# Altium footprint library Connector_PinHeader_1.27mm.PcbLib: 278 footprints (part 4 of 18)
Each footprint in its own frame and in the unit in brackets; x right, y up, seen from the top. Pads: shape width x height; smd on the part's side, far side on the other; paste and mask are expansions set on the pad; w line width, h text height; cw(c..) or ccw(c..) is an arc to the next point about the centre after c.
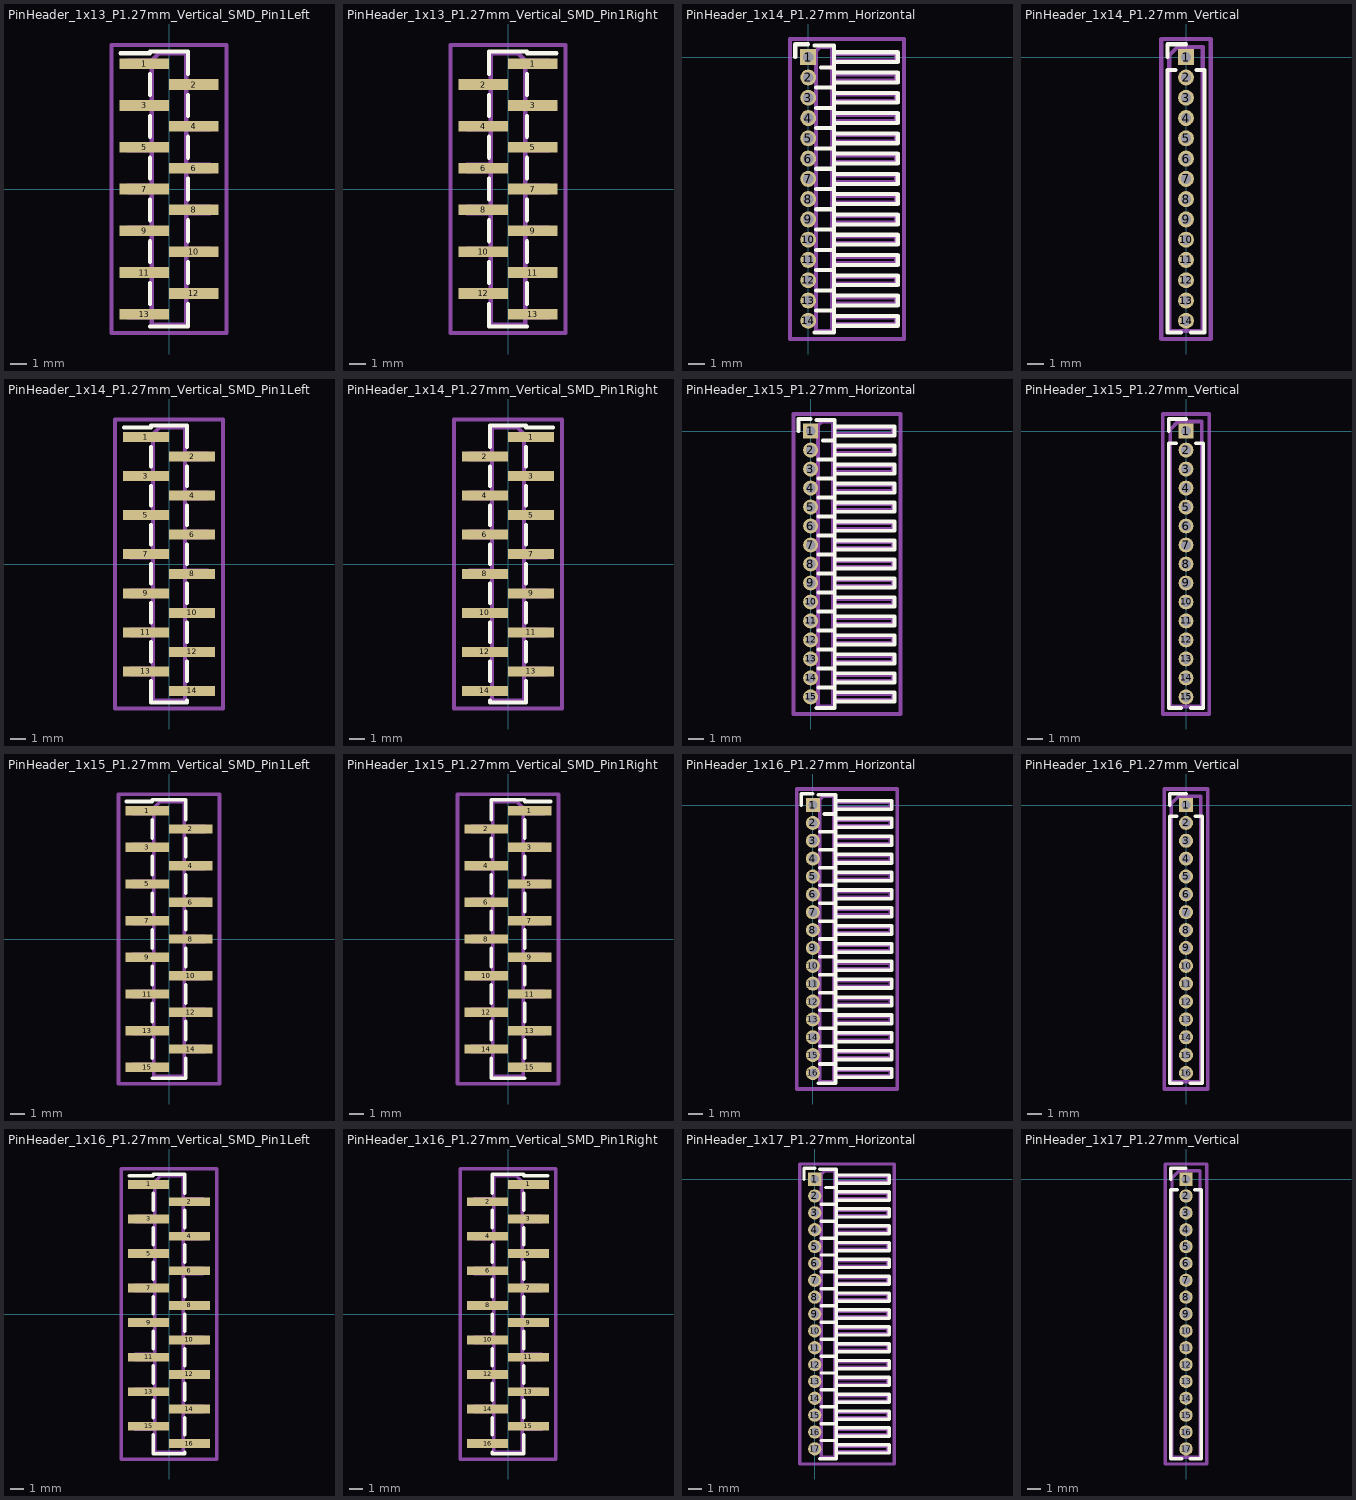
[diagram p3: the footprints below, top view; thin cyan lines are the x and y axes]

## PinHeader_1x13_P1.27mm_Vertical_SMD_Pin1Left [mm]
pads (13):
  rect 3x0.65 smd: 1(-1.5,7.62) 2(1.5,6.35) 3(-1.5,5.08) 4(1.5,3.81) 5(-1.5,2.54) 6(1.5,1.27) 7(-1.5,0) 8(1.5,-1.27) 9(-1.5,-2.54) 10(1.5,-3.81) 11(-1.5,-5.08) 12(1.5,-6.35) 13(-1.5,-7.62)
F.SilkS:
  lines w0.254: -2.94,8.255 -1.16,8.255 -1.16,8.365 1.16,8.365 ; -1.16,-8.365 1.16,-8.365 ; -1.16,-6.985 -1.16,-5.715 ; -1.16,-4.445 -1.16,-3.175 ; -1.16,-1.905 -1.16,-0.635 ; -1.16,0.635 -1.16,1.905 ; -1.16,3.175 -1.16,4.445 ; -1.16,5.715 -1.16,6.985 ; 1.16,-8.255 1.16,-8.365 ; 1.16,-6.985 1.16,-8.365 ; 1.16,-5.715 1.16,-4.445 ; 1.16,-3.175 1.16,-1.905 ; 1.16,-0.635 1.16,0.635 ; 1.16,1.905 1.16,3.175 ; 1.16,4.445 1.16,5.715 ; 1.16,6.985 1.16,8.255
Top Assembly:
  lines w0.254: -1.05,-7.82 -2.5,-7.82 -2.5,-7.42 -1.05,-7.42 ; -1.05,-5.28 -2.5,-5.28 -2.5,-4.88 -1.05,-4.88 ; -1.05,-2.74 -2.5,-2.74 -2.5,-2.34 -1.05,-2.34 ; -1.05,-0.2 -2.5,-0.2 -2.5,0.2 -1.05,0.2 ; -1.05,2.34 -2.5,2.34 -2.5,2.74 -1.05,2.74 ; -1.05,4.88 -2.5,4.88 -2.5,5.28 -1.05,5.28 ; -1.05,7.42 -2.5,7.42 -2.5,7.82 -1.05,7.82 ; 1.05,-6.55 2.5,-6.55 2.5,-6.15 1.05,-6.15 ; 1.05,-4.01 2.5,-4.01 2.5,-3.61 1.05,-3.61 ; 1.05,-1.47 2.5,-1.47 2.5,-1.07 1.05,-1.07 ; 1.05,1.07 2.5,1.07 2.5,1.47 1.05,1.47 ; 1.05,3.61 2.5,3.61 2.5,4.01 1.05,4.01 ; 1.05,6.15 2.5,6.15 2.5,6.55 1.05,6.55 ; -1.05,7.82 -1.05,-8.255 1.05,-8.255 1.05,8.255 -0.615,8.255 -1.05,7.82
  text "'.Designator'" at 0.84,-4.047 h1
Top Courtyard:
  lines w0.254: -3.5,-8.76 3.5,-8.76 3.5,8.76 -3.5,8.76 -3.5,-8.76
Top Designator:
  text ".Designator" at -7.618,-0.508 h1.52

## PinHeader_1x13_P1.27mm_Vertical_SMD_Pin1Right [mm]
pads (13):
  rect 3x0.65 smd: 1(1.5,7.62) 2(-1.5,6.35) 3(1.5,5.08) 4(-1.5,3.81) 5(1.5,2.54) 6(-1.5,1.27) 7(1.5,0) 8(-1.5,-1.27) 9(1.5,-2.54) 10(-1.5,-3.81) 11(1.5,-5.08) 12(-1.5,-6.35) 13(1.5,-7.62)
F.SilkS:
  lines w0.254: -1.16,-8.255 -1.16,-8.365 ; -1.16,-6.985 -1.16,-8.365 ; -1.16,-5.715 -1.16,-4.445 ; -1.16,-3.175 -1.16,-1.905 ; -1.16,-0.635 -1.16,0.635 ; -1.16,1.905 -1.16,3.175 ; -1.16,4.445 -1.16,5.715 ; -1.16,8.365 1.16,8.365 1.16,8.255 2.94,8.255 ; 1.16,-8.365 -1.16,-8.365 ; 1.16,-6.985 1.16,-5.715 ; 1.16,-4.445 1.16,-3.175 ; 1.16,-1.905 1.16,-0.635 ; 1.16,0.635 1.16,1.905 ; 1.16,3.175 1.16,4.445 ; 1.16,5.715 1.16,6.985 ; -1.16,6.985 -1.16,8.255 -1.16,6.985
Top Assembly:
  lines w0.254: -1.05,-6.55 -2.5,-6.55 -2.5,-6.15 -1.05,-6.15 ; -1.05,-4.01 -2.5,-4.01 -2.5,-3.61 -1.05,-3.61 ; -1.05,-1.47 -2.5,-1.47 -2.5,-1.07 -1.05,-1.07 ; -1.05,1.07 -2.5,1.07 -2.5,1.47 -1.05,1.47 ; -1.05,3.61 -2.5,3.61 -2.5,4.01 -1.05,4.01 ; -1.05,6.15 -2.5,6.15 -2.5,6.55 -1.05,6.55 ; 1.05,-7.82 2.5,-7.82 2.5,-7.42 1.05,-7.42 ; 1.05,-5.28 2.5,-5.28 2.5,-4.88 1.05,-4.88 ; 1.05,-2.74 2.5,-2.74 2.5,-2.34 1.05,-2.34 ; 1.05,-0.2 2.5,-0.2 2.5,0.2 1.05,0.2 ; 1.05,2.34 2.5,2.34 2.5,2.74 1.05,2.74 ; 1.05,4.88 2.5,4.88 2.5,5.28 1.05,5.28 ; 1.05,7.42 2.5,7.42 2.5,7.82 1.05,7.82 ; 1.05,7.82 1.05,-8.255 -1.05,-8.255 -1.05,8.255 0.615,8.255 1.05,7.82
  text "'.Designator'" at 0.84,-4.047 h1
Top Courtyard:
  lines w0.254: -3.5,-8.76 3.5,-8.76 3.5,8.76 -3.5,8.76 -3.5,-8.76
Top Designator:
  text ".Designator" at -7.618,-0.508 h1.52

## PinHeader_1x14_P1.27mm_Horizontal [mm]
pads (14):
  rect 1x1 hole 0.65: 1(0,0)
  round 1 hole 0.65: 2(0,-1.27) 3(0,-2.54) 4(0,-3.81) 5(0,-5.08) 6(0,-6.35) 7(0,-7.62) 8(0,-8.89) 9(0,-10.16) 10(0,-11.43) 11(0,-12.7) 12(0,-13.97) 13(0,-15.24) 14(0,-16.51)
F.SilkS:
  lines w0.254: -0.81,0 -0.81,0.81 0,0.81 ; 0.39,-17.255 1.61,-17.255 1.61,0.745 0.39,0.745 ; 0.503,-15.875 1.61,-15.875 ; 0.503,-14.605 1.61,-14.605 ; 0.503,-13.335 1.61,-13.335 ; 0.503,-12.065 1.61,-12.065 ; 0.503,-10.795 1.61,-10.795 ; 0.503,-9.525 1.61,-9.525 ; 0.503,-8.255 1.61,-8.255 ; 0.503,-6.985 1.61,-6.985 ; 0.503,-5.715 1.61,-5.715 ; 0.503,-4.445 1.61,-4.445 ; 0.503,-3.175 1.61,-3.175 ; 0.503,-1.905 1.61,-1.905 ; 0.81,-0.635 1.61,-0.635 ; 1.61,-16.82 5.61,-16.82 5.61,-16.2 1.61,-16.2 ; 1.61,-15.55 5.61,-15.55 5.61,-14.93 1.61,-14.93 ; 1.61,-14.28 5.61,-14.28 5.61,-13.66 1.61,-13.66 ; 1.61,-13.01 5.61,-13.01 5.61,-12.39 1.61,-12.39 ; 1.61,-11.74 5.61,-11.74 5.61,-11.12 1.61,-11.12 ; 1.61,-10.47 5.61,-10.47 5.61,-9.85 1.61,-9.85 ; 1.61,-9.2 5.61,-9.2 5.61,-8.58 1.61,-8.58 ; 1.61,-7.93 5.61,-7.93 5.61,-7.31 1.61,-7.31 ; 1.61,-6.66 5.61,-6.66 5.61,-6.04 1.61,-6.04 ; 1.61,-5.39 5.61,-5.39 5.61,-4.77 1.61,-4.77 ; 1.61,-4.12 5.61,-4.12 5.61,-3.5 1.61,-3.5 ; 1.61,-2.85 5.61,-2.85 5.61,-2.23 1.61,-2.23 ; 1.61,-1.58 5.61,-1.58 5.61,-0.96 1.61,-0.96 ; 1.61,-0.31 5.61,-0.31 5.61,0.31 1.61,0.31 1.61,-0.31
Top Assembly:
  lines w0.254: 0.5,-16.71 -0.2,-16.71 -0.2,-16.31 0.5,-16.31 ; 0.5,-15.44 -0.2,-15.44 -0.2,-15.04 0.5,-15.04 ; 0.5,-14.17 -0.2,-14.17 -0.2,-13.77 0.5,-13.77 ; 0.5,-12.9 -0.2,-12.9 -0.2,-12.5 0.5,-12.5 ; 0.5,-11.63 -0.2,-11.63 -0.2,-11.23 0.5,-11.23 ; 0.5,-10.36 -0.2,-10.36 -0.2,-9.96 0.5,-9.96 ; 0.5,-9.09 -0.2,-9.09 -0.2,-8.69 0.5,-8.69 ; 0.5,-7.82 -0.2,-7.82 -0.2,-7.42 0.5,-7.42 ; 0.5,-6.55 -0.2,-6.55 -0.2,-6.15 0.5,-6.15 ; 0.5,-5.28 -0.2,-5.28 -0.2,-4.88 0.5,-4.88 ; 0.5,-4.01 -0.2,-4.01 -0.2,-3.61 0.5,-3.61 ; 0.5,-2.74 -0.2,-2.74 -0.2,-2.34 0.5,-2.34 ; 0.5,-1.47 -0.2,-1.47 -0.2,-1.07 0.5,-1.07 ; 0.5,-0.2 -0.2,-0.2 -0.2,0.2 0.5,0.2 ; 1.5,-16.71 5.5,-16.71 5.5,-16.31 1.5,-16.31 ; 1.5,-15.44 5.5,-15.44 5.5,-15.04 1.5,-15.04 ; 1.5,-14.17 5.5,-14.17 5.5,-13.77 1.5,-13.77 ; 1.5,-12.9 5.5,-12.9 5.5,-12.5 1.5,-12.5 ; 1.5,-11.63 5.5,-11.63 5.5,-11.23 1.5,-11.23 ; 1.5,-10.36 5.5,-10.36 5.5,-9.96 1.5,-9.96 ; 1.5,-9.09 5.5,-9.09 5.5,-8.69 1.5,-8.69 ; 1.5,-7.82 5.5,-7.82 5.5,-7.42 1.5,-7.42 ; 1.5,-6.55 5.5,-6.55 5.5,-6.15 1.5,-6.15 ; 1.5,-5.28 5.5,-5.28 5.5,-4.88 1.5,-4.88 ; 1.5,-4.01 5.5,-4.01 5.5,-3.61 1.5,-3.61 ; 1.5,-2.74 5.5,-2.74 5.5,-2.34 1.5,-2.34 ; 1.5,-1.47 5.5,-1.47 5.5,-1.07 1.5,-1.07 ; 1.5,-0.2 5.5,-0.2 5.5,0.2 1.5,0.2 ; 0.5,-17.145 1.5,-17.145 1.5,0.635 0.75,0.635 0.5,0.385 0.5,-17.145
  text "'.Designator'" at 1.504,-10.683 h0.6
Top Courtyard:
  lines w0.254: -1.14,-17.65 6,-17.65 6,1.14 -1.14,1.14 -1.14,-17.65
Top Designator:
  text ".Designator" at -5.188,-8.763 h1.52

## PinHeader_1x14_P1.27mm_Vertical [mm]
pads (14):
  rect 1x1 hole 0.65: 1(0,0)
  round 1 hole 0.65: 2(0,-1.27) 3(0,-2.54) 4(0,-3.81) 5(0,-5.08) 6(0,-6.35) 7(0,-7.62) 8(0,-8.89) 9(0,-10.16) 10(0,-11.43) 11(0,-12.7) 12(0,-13.97) 13(0,-15.24) 14(0,-16.51)
F.SilkS:
  lines w0.254: -1.16,0 -1.16,0.81 0,0.81 ; -0.667,-0.81 -1.16,-0.81 -1.16,-17.255 -0.318,-17.255 ; 0.318,-17.255 1.16,-17.255 1.16,-0.81 0.667,-0.81
Top Assembly:
  lines w0.254: -1.05,-17.145 1.05,-17.145 1.05,0.635 -0.525,0.635 -1.05,0.11 -1.05,-17.145
  text "'.Designator'" at 0.84,-12.302 h1
Top Courtyard:
  lines w0.254: -1.55,-17.65 1.55,-17.65 1.55,1.14 -1.55,1.14 -1.55,-17.65
Top Designator:
  text ".Designator" at -7.618,-8.763 h1.52

## PinHeader_1x14_P1.27mm_Vertical_SMD_Pin1Left [mm]
pads (14):
  rect 3x0.65 smd: 1(-1.5,8.255) 2(1.5,6.985) 3(-1.5,5.715) 4(1.5,4.445) 5(-1.5,3.175) 6(1.5,1.905) 7(-1.5,0.635) 8(1.5,-0.635) 9(-1.5,-1.905) 10(1.5,-3.175) 11(-1.5,-4.445) 12(1.5,-5.715) 13(-1.5,-6.985) 14(1.5,-8.255)
F.SilkS:
  lines w0.254: -2.94,8.89 -1.16,8.89 -1.16,9 1.16,9 ; -1.16,-7.62 -1.16,-9 1.16,-9 1.16,-8.89 ; -1.16,-6.35 -1.16,-5.08 ; -1.16,-3.81 -1.16,-2.54 ; -1.16,-1.27 -1.16,0 ; -1.16,1.27 -1.16,2.54 ; -1.16,3.81 -1.16,5.08 ; -1.16,6.35 -1.16,7.62 ; 1.16,-7.62 1.16,-6.35 ; 1.16,-5.08 1.16,-3.81 ; 1.16,-2.54 1.16,-1.27 ; 1.16,0 1.16,1.27 ; 1.16,2.54 1.16,3.81 ; 1.16,5.08 1.16,6.35 ; 1.16,7.62 1.16,8.89
Top Assembly:
  lines w0.254: -1.05,-7.185 -2.5,-7.185 -2.5,-6.785 -1.05,-6.785 ; -1.05,-4.645 -2.5,-4.645 -2.5,-4.245 -1.05,-4.245 ; -1.05,-2.105 -2.5,-2.105 -2.5,-1.705 -1.05,-1.705 ; -1.05,0.435 -2.5,0.435 -2.5,0.835 -1.05,0.835 ; -1.05,2.975 -2.5,2.975 -2.5,3.375 -1.05,3.375 ; -1.05,5.515 -2.5,5.515 -2.5,5.915 -1.05,5.915 ; -1.05,8.055 -2.5,8.055 -2.5,8.455 -1.05,8.455 ; 1.05,-8.455 2.5,-8.455 2.5,-8.055 1.05,-8.055 ; 1.05,-5.915 2.5,-5.915 2.5,-5.515 1.05,-5.515 ; 1.05,-3.375 2.5,-3.375 2.5,-2.975 1.05,-2.975 ; 1.05,-0.835 2.5,-0.835 2.5,-0.435 1.05,-0.435 ; 1.05,1.705 2.5,1.705 2.5,2.105 1.05,2.105 ; 1.05,4.245 2.5,4.245 2.5,4.645 1.05,4.645 ; 1.05,6.785 2.5,6.785 2.5,7.185 1.05,7.185 ; -1.05,8.455 -1.05,-8.89 1.05,-8.89 1.05,8.89 -0.615,8.89 -1.05,8.455
  text "'.Designator'" at 0.84,-4.047 h1
Top Courtyard:
  lines w0.254: -3.5,-9.4 3.5,-9.4 3.5,9.4 -3.5,9.4 -3.5,-9.4
Top Designator:
  text ".Designator" at -7.618,-0.508 h1.52

## PinHeader_1x14_P1.27mm_Vertical_SMD_Pin1Right [mm]
pads (14):
  rect 3x0.65 smd: 1(1.5,8.255) 2(-1.5,6.985) 3(1.5,5.715) 4(-1.5,4.445) 5(1.5,3.175) 6(-1.5,1.905) 7(1.5,0.635) 8(-1.5,-0.635) 9(1.5,-1.905) 10(-1.5,-3.175) 11(1.5,-4.445) 12(-1.5,-5.715) 13(1.5,-6.985) 14(-1.5,-8.255)
F.SilkS:
  lines w0.254: -1.16,-8.89 -1.16,-9 1.16,-9 1.16,-7.62 ; -1.16,-7.62 -1.16,-6.35 ; -1.16,-5.08 -1.16,-3.81 ; -1.16,-2.54 -1.16,-1.27 ; -1.16,0 -1.16,1.27 ; -1.16,2.54 -1.16,3.81 ; -1.16,5.08 -1.16,6.35 ; -1.16,9 1.16,9 1.16,8.89 2.94,8.89 ; 1.16,-6.35 1.16,-5.08 ; 1.16,-3.81 1.16,-2.54 ; 1.16,-1.27 1.16,0 ; 1.16,1.27 1.16,2.54 ; 1.16,3.81 1.16,5.08 ; 1.16,6.35 1.16,7.62 ; -1.16,7.62 -1.16,8.89 -1.16,7.62
Top Assembly:
  lines w0.254: -1.05,-8.455 -2.5,-8.455 -2.5,-8.055 -1.05,-8.055 ; -1.05,-5.915 -2.5,-5.915 -2.5,-5.515 -1.05,-5.515 ; -1.05,-3.375 -2.5,-3.375 -2.5,-2.975 -1.05,-2.975 ; -1.05,-0.835 -2.5,-0.835 -2.5,-0.435 -1.05,-0.435 ; -1.05,1.705 -2.5,1.705 -2.5,2.105 -1.05,2.105 ; -1.05,4.245 -2.5,4.245 -2.5,4.645 -1.05,4.645 ; -1.05,6.785 -2.5,6.785 -2.5,7.185 -1.05,7.185 ; 1.05,-7.185 2.5,-7.185 2.5,-6.785 1.05,-6.785 ; 1.05,-4.645 2.5,-4.645 2.5,-4.245 1.05,-4.245 ; 1.05,-2.105 2.5,-2.105 2.5,-1.705 1.05,-1.705 ; 1.05,0.435 2.5,0.435 2.5,0.835 1.05,0.835 ; 1.05,2.975 2.5,2.975 2.5,3.375 1.05,3.375 ; 1.05,5.515 2.5,5.515 2.5,5.915 1.05,5.915 ; 1.05,8.055 2.5,8.055 2.5,8.455 1.05,8.455 ; 1.05,8.455 1.05,-8.89 -1.05,-8.89 -1.05,8.89 0.615,8.89 1.05,8.455
  text "'.Designator'" at 0.84,-4.047 h1
Top Courtyard:
  lines w0.254: -3.5,-9.4 3.5,-9.4 3.5,9.4 -3.5,9.4 -3.5,-9.4
Top Designator:
  text ".Designator" at -7.618,-0.508 h1.52

## PinHeader_1x15_P1.27mm_Horizontal [mm]
pads (15):
  rect 1x1 hole 0.65: 1(0,0)
  round 1 hole 0.65: 2(0,-1.27) 3(0,-2.54) 4(0,-3.81) 5(0,-5.08) 6(0,-6.35) 7(0,-7.62) 8(0,-8.89) 9(0,-10.16) 10(0,-11.43) 11(0,-12.7) 12(0,-13.97) 13(0,-15.24) 14(0,-16.51) 15(0,-17.78)
F.SilkS:
  lines w0.254: -0.81,0 -0.81,0.81 0,0.81 ; 0.39,-18.525 1.61,-18.525 1.61,0.745 0.39,0.745 ; 0.503,-17.145 1.61,-17.145 ; 0.503,-15.875 1.61,-15.875 ; 0.503,-14.605 1.61,-14.605 ; 0.503,-13.335 1.61,-13.335 ; 0.503,-12.065 1.61,-12.065 ; 0.503,-10.795 1.61,-10.795 ; 0.503,-9.525 1.61,-9.525 ; 0.503,-8.255 1.61,-8.255 ; 0.503,-6.985 1.61,-6.985 ; 0.503,-5.715 1.61,-5.715 ; 0.503,-4.445 1.61,-4.445 ; 0.503,-3.175 1.61,-3.175 ; 0.503,-1.905 1.61,-1.905 ; 0.81,-0.635 1.61,-0.635 ; 1.61,-18.09 5.61,-18.09 5.61,-17.47 1.61,-17.47 ; 1.61,-16.82 5.61,-16.82 5.61,-16.2 1.61,-16.2 ; 1.61,-15.55 5.61,-15.55 5.61,-14.93 1.61,-14.93 ; 1.61,-14.28 5.61,-14.28 5.61,-13.66 1.61,-13.66 ; 1.61,-13.01 5.61,-13.01 5.61,-12.39 1.61,-12.39 ; 1.61,-11.74 5.61,-11.74 5.61,-11.12 1.61,-11.12 ; 1.61,-10.47 5.61,-10.47 5.61,-9.85 1.61,-9.85 ; 1.61,-9.2 5.61,-9.2 5.61,-8.58 1.61,-8.58 ; 1.61,-7.93 5.61,-7.93 5.61,-7.31 1.61,-7.31 ; 1.61,-6.66 5.61,-6.66 5.61,-6.04 1.61,-6.04 ; 1.61,-5.39 5.61,-5.39 5.61,-4.77 1.61,-4.77 ; 1.61,-4.12 5.61,-4.12 5.61,-3.5 1.61,-3.5 ; 1.61,-2.85 5.61,-2.85 5.61,-2.23 1.61,-2.23 ; 1.61,-1.58 5.61,-1.58 5.61,-0.96 1.61,-0.96 ; 1.61,-0.31 5.61,-0.31 5.61,0.31 1.61,0.31 1.61,-0.31
Top Assembly:
  lines w0.254: 0.5,-17.98 -0.2,-17.98 -0.2,-17.58 0.5,-17.58 ; 0.5,-16.71 -0.2,-16.71 -0.2,-16.31 0.5,-16.31 ; 0.5,-15.44 -0.2,-15.44 -0.2,-15.04 0.5,-15.04 ; 0.5,-14.17 -0.2,-14.17 -0.2,-13.77 0.5,-13.77 ; 0.5,-12.9 -0.2,-12.9 -0.2,-12.5 0.5,-12.5 ; 0.5,-11.63 -0.2,-11.63 -0.2,-11.23 0.5,-11.23 ; 0.5,-10.36 -0.2,-10.36 -0.2,-9.96 0.5,-9.96 ; 0.5,-9.09 -0.2,-9.09 -0.2,-8.69 0.5,-8.69 ; 0.5,-7.82 -0.2,-7.82 -0.2,-7.42 0.5,-7.42 ; 0.5,-6.55 -0.2,-6.55 -0.2,-6.15 0.5,-6.15 ; 0.5,-5.28 -0.2,-5.28 -0.2,-4.88 0.5,-4.88 ; 0.5,-4.01 -0.2,-4.01 -0.2,-3.61 0.5,-3.61 ; 0.5,-2.74 -0.2,-2.74 -0.2,-2.34 0.5,-2.34 ; 0.5,-1.47 -0.2,-1.47 -0.2,-1.07 0.5,-1.07 ; 0.5,-0.2 -0.2,-0.2 -0.2,0.2 0.5,0.2 ; 1.5,-17.98 5.5,-17.98 5.5,-17.58 1.5,-17.58 ; 1.5,-16.71 5.5,-16.71 5.5,-16.31 1.5,-16.31 ; 1.5,-15.44 5.5,-15.44 5.5,-15.04 1.5,-15.04 ; 1.5,-14.17 5.5,-14.17 5.5,-13.77 1.5,-13.77 ; 1.5,-12.9 5.5,-12.9 5.5,-12.5 1.5,-12.5 ; 1.5,-11.63 5.5,-11.63 5.5,-11.23 1.5,-11.23 ; 1.5,-10.36 5.5,-10.36 5.5,-9.96 1.5,-9.96 ; 1.5,-9.09 5.5,-9.09 5.5,-8.69 1.5,-8.69 ; 1.5,-7.82 5.5,-7.82 5.5,-7.42 1.5,-7.42 ; 1.5,-6.55 5.5,-6.55 5.5,-6.15 1.5,-6.15 ; 1.5,-5.28 5.5,-5.28 5.5,-4.88 1.5,-4.88 ; 1.5,-4.01 5.5,-4.01 5.5,-3.61 1.5,-3.61 ; 1.5,-2.74 5.5,-2.74 5.5,-2.34 1.5,-2.34 ; 1.5,-1.47 5.5,-1.47 5.5,-1.07 1.5,-1.07 ; 1.5,-0.2 5.5,-0.2 5.5,0.2 1.5,0.2 ; 0.5,-18.415 1.5,-18.415 1.5,0.635 0.75,0.635 0.5,0.385 0.5,-18.415
  text "'.Designator'" at 1.504,-11.318 h0.6
Top Courtyard:
  lines w0.254: -1.14,-18.92 6,-18.92 6,1.14 -1.14,1.14 -1.14,-18.92
Top Designator:
  text ".Designator" at -5.188,-9.398 h1.52

## PinHeader_1x15_P1.27mm_Vertical [mm]
pads (15):
  rect 1x1 hole 0.65: 1(0,0)
  round 1 hole 0.65: 2(0,-1.27) 3(0,-2.54) 4(0,-3.81) 5(0,-5.08) 6(0,-6.35) 7(0,-7.62) 8(0,-8.89) 9(0,-10.16) 10(0,-11.43) 11(0,-12.7) 12(0,-13.97) 13(0,-15.24) 14(0,-16.51) 15(0,-17.78)
F.SilkS:
  lines w0.254: -1.16,0 -1.16,0.81 0,0.81 ; -0.667,-0.81 -1.16,-0.81 -1.16,-18.525 -0.318,-18.525 ; 0.318,-18.525 1.16,-18.525 1.16,-0.81 0.667,-0.81
Top Assembly:
  lines w0.254: -1.05,-18.415 1.05,-18.415 1.05,0.635 -0.525,0.635 -1.05,0.11 -1.05,-18.415
  text "'.Designator'" at 0.84,-12.937 h1
Top Courtyard:
  lines w0.254: -1.55,-18.92 1.55,-18.92 1.55,1.14 -1.55,1.14 -1.55,-18.92
Top Designator:
  text ".Designator" at -7.618,-9.398 h1.52

## PinHeader_1x15_P1.27mm_Vertical_SMD_Pin1Left [mm]
pads (15):
  rect 3x0.65 smd: 1(-1.5,8.89) 2(1.5,7.62) 3(-1.5,6.35) 4(1.5,5.08) 5(-1.5,3.81) 6(1.5,2.54) 7(-1.5,1.27) 8(1.5,0) 9(-1.5,-1.27) 10(1.5,-2.54) 11(-1.5,-3.81) 12(1.5,-5.08) 13(-1.5,-6.35) 14(1.5,-7.62) 15(-1.5,-8.89)
F.SilkS:
  lines w0.254: -2.94,9.525 -1.16,9.525 -1.16,9.635 1.16,9.635 ; -1.16,-9.635 1.16,-9.635 ; -1.16,-8.255 -1.16,-6.985 ; -1.16,-5.715 -1.16,-4.445 ; -1.16,-3.175 -1.16,-1.905 ; -1.16,-0.635 -1.16,0.635 ; -1.16,1.905 -1.16,3.175 ; -1.16,4.445 -1.16,5.715 ; -1.16,6.985 -1.16,8.255 ; 1.16,-9.525 1.16,-9.635 ; 1.16,-8.255 1.16,-9.635 ; 1.16,-6.985 1.16,-5.715 ; 1.16,-4.445 1.16,-3.175 ; 1.16,-1.905 1.16,-0.635 ; 1.16,0.635 1.16,1.905 ; 1.16,3.175 1.16,4.445 ; 1.16,5.715 1.16,6.985 ; 1.16,8.255 1.16,9.525
Top Assembly:
  lines w0.254: -1.05,-9.09 -2.5,-9.09 -2.5,-8.69 -1.05,-8.69 ; -1.05,-6.55 -2.5,-6.55 -2.5,-6.15 -1.05,-6.15 ; -1.05,-4.01 -2.5,-4.01 -2.5,-3.61 -1.05,-3.61 ; -1.05,-1.47 -2.5,-1.47 -2.5,-1.07 -1.05,-1.07 ; -1.05,1.07 -2.5,1.07 -2.5,1.47 -1.05,1.47 ; -1.05,3.61 -2.5,3.61 -2.5,4.01 -1.05,4.01 ; -1.05,6.15 -2.5,6.15 -2.5,6.55 -1.05,6.55 ; -1.05,8.69 -2.5,8.69 -2.5,9.09 -1.05,9.09 ; 1.05,-7.82 2.5,-7.82 2.5,-7.42 1.05,-7.42 ; 1.05,-5.28 2.5,-5.28 2.5,-4.88 1.05,-4.88 ; 1.05,-2.74 2.5,-2.74 2.5,-2.34 1.05,-2.34 ; 1.05,-0.2 2.5,-0.2 2.5,0.2 1.05,0.2 ; 1.05,2.34 2.5,2.34 2.5,2.74 1.05,2.74 ; 1.05,4.88 2.5,4.88 2.5,5.28 1.05,5.28 ; 1.05,7.42 2.5,7.42 2.5,7.82 1.05,7.82 ; -1.05,9.09 -1.05,-9.525 1.05,-9.525 1.05,9.525 -0.615,9.525 -1.05,9.09
  text "'.Designator'" at 0.84,-4.047 h1
Top Courtyard:
  lines w0.254: -3.5,-10.03 3.5,-10.03 3.5,10.03 -3.5,10.03 -3.5,-10.03
Top Designator:
  text ".Designator" at -7.618,-0.508 h1.52

## PinHeader_1x15_P1.27mm_Vertical_SMD_Pin1Right [mm]
pads (15):
  rect 3x0.65 smd: 1(1.5,8.89) 2(-1.5,7.62) 3(1.5,6.35) 4(-1.5,5.08) 5(1.5,3.81) 6(-1.5,2.54) 7(1.5,1.27) 8(-1.5,0) 9(1.5,-1.27) 10(-1.5,-2.54) 11(1.5,-3.81) 12(-1.5,-5.08) 13(1.5,-6.35) 14(-1.5,-7.62) 15(1.5,-8.89)
F.SilkS:
  lines w0.254: -1.16,-9.525 -1.16,-9.635 ; -1.16,-8.255 -1.16,-9.635 ; -1.16,-6.985 -1.16,-5.715 ; -1.16,-4.445 -1.16,-3.175 ; -1.16,-1.905 -1.16,-0.635 ; -1.16,0.635 -1.16,1.905 ; -1.16,3.175 -1.16,4.445 ; -1.16,5.715 -1.16,6.985 ; -1.16,9.635 1.16,9.635 1.16,9.525 2.94,9.525 ; 1.16,-9.635 -1.16,-9.635 ; 1.16,-8.255 1.16,-6.985 ; 1.16,-5.715 1.16,-4.445 ; 1.16,-3.175 1.16,-1.905 ; 1.16,-0.635 1.16,0.635 ; 1.16,1.905 1.16,3.175 ; 1.16,4.445 1.16,5.715 ; 1.16,6.985 1.16,8.255 ; -1.16,8.255 -1.16,9.525 -1.16,8.255
Top Assembly:
  lines w0.254: -1.05,-7.82 -2.5,-7.82 -2.5,-7.42 -1.05,-7.42 ; -1.05,-5.28 -2.5,-5.28 -2.5,-4.88 -1.05,-4.88 ; -1.05,-2.74 -2.5,-2.74 -2.5,-2.34 -1.05,-2.34 ; -1.05,-0.2 -2.5,-0.2 -2.5,0.2 -1.05,0.2 ; -1.05,2.34 -2.5,2.34 -2.5,2.74 -1.05,2.74 ; -1.05,4.88 -2.5,4.88 -2.5,5.28 -1.05,5.28 ; -1.05,7.42 -2.5,7.42 -2.5,7.82 -1.05,7.82 ; 1.05,-9.09 2.5,-9.09 2.5,-8.69 1.05,-8.69 ; 1.05,-6.55 2.5,-6.55 2.5,-6.15 1.05,-6.15 ; 1.05,-4.01 2.5,-4.01 2.5,-3.61 1.05,-3.61 ; 1.05,-1.47 2.5,-1.47 2.5,-1.07 1.05,-1.07 ; 1.05,1.07 2.5,1.07 2.5,1.47 1.05,1.47 ; 1.05,3.61 2.5,3.61 2.5,4.01 1.05,4.01 ; 1.05,6.15 2.5,6.15 2.5,6.55 1.05,6.55 ; 1.05,8.69 2.5,8.69 2.5,9.09 1.05,9.09 ; 1.05,9.09 1.05,-9.525 -1.05,-9.525 -1.05,9.525 0.615,9.525 1.05,9.09
  text "'.Designator'" at 0.84,-4.047 h1
Top Courtyard:
  lines w0.254: -3.5,-10.03 3.5,-10.03 3.5,10.03 -3.5,10.03 -3.5,-10.03
Top Designator:
  text ".Designator" at -7.618,-0.508 h1.52

## PinHeader_1x16_P1.27mm_Horizontal [mm]
pads (16):
  rect 1x1 hole 0.65: 1(0,0)
  round 1 hole 0.65: 2(0,-1.27) 3(0,-2.54) 4(0,-3.81) 5(0,-5.08) 6(0,-6.35) 7(0,-7.62) 8(0,-8.89) 9(0,-10.16) 10(0,-11.43) 11(0,-12.7) 12(0,-13.97) 13(0,-15.24) 14(0,-16.51) 15(0,-17.78) 16(0,-19.05)
F.SilkS:
  lines w0.254: -0.81,0 -0.81,0.81 0,0.81 ; 0.39,-19.795 1.61,-19.795 1.61,0.745 0.39,0.745 ; 0.503,-18.415 1.61,-18.415 ; 0.503,-17.145 1.61,-17.145 ; 0.503,-15.875 1.61,-15.875 ; 0.503,-14.605 1.61,-14.605 ; 0.503,-13.335 1.61,-13.335 ; 0.503,-12.065 1.61,-12.065 ; 0.503,-10.795 1.61,-10.795 ; 0.503,-9.525 1.61,-9.525 ; 0.503,-8.255 1.61,-8.255 ; 0.503,-6.985 1.61,-6.985 ; 0.503,-5.715 1.61,-5.715 ; 0.503,-4.445 1.61,-4.445 ; 0.503,-3.175 1.61,-3.175 ; 0.503,-1.905 1.61,-1.905 ; 0.81,-0.635 1.61,-0.635 ; 1.61,-19.36 5.61,-19.36 5.61,-18.74 1.61,-18.74 ; 1.61,-18.09 5.61,-18.09 5.61,-17.47 1.61,-17.47 ; 1.61,-16.82 5.61,-16.82 5.61,-16.2 1.61,-16.2 ; 1.61,-15.55 5.61,-15.55 5.61,-14.93 1.61,-14.93 ; 1.61,-14.28 5.61,-14.28 5.61,-13.66 1.61,-13.66 ; 1.61,-13.01 5.61,-13.01 5.61,-12.39 1.61,-12.39 ; 1.61,-11.74 5.61,-11.74 5.61,-11.12 1.61,-11.12 ; 1.61,-10.47 5.61,-10.47 5.61,-9.85 1.61,-9.85 ; 1.61,-9.2 5.61,-9.2 5.61,-8.58 1.61,-8.58 ; 1.61,-7.93 5.61,-7.93 5.61,-7.31 1.61,-7.31 ; 1.61,-6.66 5.61,-6.66 5.61,-6.04 1.61,-6.04 ; 1.61,-5.39 5.61,-5.39 5.61,-4.77 1.61,-4.77 ; 1.61,-4.12 5.61,-4.12 5.61,-3.5 1.61,-3.5 ; 1.61,-2.85 5.61,-2.85 5.61,-2.23 1.61,-2.23 ; 1.61,-1.58 5.61,-1.58 5.61,-0.96 1.61,-0.96 ; 1.61,-0.31 5.61,-0.31 5.61,0.31 1.61,0.31 1.61,-0.31
Top Assembly:
  lines w0.254: 0.5,-19.25 -0.2,-19.25 -0.2,-18.85 0.5,-18.85 ; 0.5,-17.98 -0.2,-17.98 -0.2,-17.58 0.5,-17.58 ; 0.5,-16.71 -0.2,-16.71 -0.2,-16.31 0.5,-16.31 ; 0.5,-15.44 -0.2,-15.44 -0.2,-15.04 0.5,-15.04 ; 0.5,-14.17 -0.2,-14.17 -0.2,-13.77 0.5,-13.77 ; 0.5,-12.9 -0.2,-12.9 -0.2,-12.5 0.5,-12.5 ; 0.5,-11.63 -0.2,-11.63 -0.2,-11.23 0.5,-11.23 ; 0.5,-10.36 -0.2,-10.36 -0.2,-9.96 0.5,-9.96 ; 0.5,-9.09 -0.2,-9.09 -0.2,-8.69 0.5,-8.69 ; 0.5,-7.82 -0.2,-7.82 -0.2,-7.42 0.5,-7.42 ; 0.5,-6.55 -0.2,-6.55 -0.2,-6.15 0.5,-6.15 ; 0.5,-5.28 -0.2,-5.28 -0.2,-4.88 0.5,-4.88 ; 0.5,-4.01 -0.2,-4.01 -0.2,-3.61 0.5,-3.61 ; 0.5,-2.74 -0.2,-2.74 -0.2,-2.34 0.5,-2.34 ; 0.5,-1.47 -0.2,-1.47 -0.2,-1.07 0.5,-1.07 ; 0.5,-0.2 -0.2,-0.2 -0.2,0.2 0.5,0.2 ; 1.5,-19.25 5.5,-19.25 5.5,-18.85 1.5,-18.85 ; 1.5,-17.98 5.5,-17.98 5.5,-17.58 1.5,-17.58 ; 1.5,-16.71 5.5,-16.71 5.5,-16.31 1.5,-16.31 ; 1.5,-15.44 5.5,-15.44 5.5,-15.04 1.5,-15.04 ; 1.5,-14.17 5.5,-14.17 5.5,-13.77 1.5,-13.77 ; 1.5,-12.9 5.5,-12.9 5.5,-12.5 1.5,-12.5 ; 1.5,-11.63 5.5,-11.63 5.5,-11.23 1.5,-11.23 ; 1.5,-10.36 5.5,-10.36 5.5,-9.96 1.5,-9.96 ; 1.5,-9.09 5.5,-9.09 5.5,-8.69 1.5,-8.69 ; 1.5,-7.82 5.5,-7.82 5.5,-7.42 1.5,-7.42 ; 1.5,-6.55 5.5,-6.55 5.5,-6.15 1.5,-6.15 ; 1.5,-5.28 5.5,-5.28 5.5,-4.88 1.5,-4.88 ; 1.5,-4.01 5.5,-4.01 5.5,-3.61 1.5,-3.61 ; 1.5,-2.74 5.5,-2.74 5.5,-2.34 1.5,-2.34 ; 1.5,-1.47 5.5,-1.47 5.5,-1.07 1.5,-1.07 ; 1.5,-0.2 5.5,-0.2 5.5,0.2 1.5,0.2 ; 0.5,-19.685 1.5,-19.685 1.5,0.635 0.75,0.635 0.5,0.385 0.5,-19.685
  text "'.Designator'" at 1.504,-11.953 h0.6
Top Courtyard:
  lines w0.254: -1.14,-20.19 6,-20.19 6,1.14 -1.14,1.14 -1.14,-20.19
Top Designator:
  text ".Designator" at -5.188,-10.033 h1.52

## PinHeader_1x16_P1.27mm_Vertical [mm]
pads (16):
  rect 1x1 hole 0.65: 1(0,0)
  round 1 hole 0.65: 2(0,-1.27) 3(0,-2.54) 4(0,-3.81) 5(0,-5.08) 6(0,-6.35) 7(0,-7.62) 8(0,-8.89) 9(0,-10.16) 10(0,-11.43) 11(0,-12.7) 12(0,-13.97) 13(0,-15.24) 14(0,-16.51) 15(0,-17.78) 16(0,-19.05)
F.SilkS:
  lines w0.254: -1.16,0 -1.16,0.81 0,0.81 ; -0.667,-0.81 -1.16,-0.81 -1.16,-19.795 -0.318,-19.795 ; 0.318,-19.795 1.16,-19.795 1.16,-0.81 0.667,-0.81
Top Assembly:
  lines w0.254: -1.05,-19.685 1.05,-19.685 1.05,0.635 -0.525,0.635 -1.05,0.11 -1.05,-19.685
  text "'.Designator'" at 0.84,-13.572 h1
Top Courtyard:
  lines w0.254: -1.55,-20.19 1.55,-20.19 1.55,1.14 -1.55,1.14 -1.55,-20.19
Top Designator:
  text ".Designator" at -7.618,-10.033 h1.52

## PinHeader_1x16_P1.27mm_Vertical_SMD_Pin1Left [mm]
pads (16):
  rect 3x0.65 smd: 1(-1.5,9.525) 2(1.5,8.255) 3(-1.5,6.985) 4(1.5,5.715) 5(-1.5,4.445) 6(1.5,3.175) 7(-1.5,1.905) 8(1.5,0.635) 9(-1.5,-0.635) 10(1.5,-1.905) 11(-1.5,-3.175) 12(1.5,-4.445) 13(-1.5,-5.715) 14(1.5,-6.985) 15(-1.5,-8.255) 16(1.5,-9.525)
F.SilkS:
  lines w0.254: -2.94,10.16 -1.16,10.16 -1.16,10.27 1.16,10.27 ; -1.16,-8.89 -1.16,-10.27 1.16,-10.27 1.16,-10.16 ; -1.16,-7.62 -1.16,-6.35 ; -1.16,-5.08 -1.16,-3.81 ; -1.16,-2.54 -1.16,-1.27 ; -1.16,0 -1.16,1.27 ; -1.16,2.54 -1.16,3.81 ; -1.16,5.08 -1.16,6.35 ; -1.16,7.62 -1.16,8.89 ; 1.16,-8.89 1.16,-7.62 ; 1.16,-6.35 1.16,-5.08 ; 1.16,-3.81 1.16,-2.54 ; 1.16,-1.27 1.16,0 ; 1.16,1.27 1.16,2.54 ; 1.16,3.81 1.16,5.08 ; 1.16,6.35 1.16,7.62 ; 1.16,8.89 1.16,10.16
Top Assembly:
  lines w0.254: -1.05,-8.455 -2.5,-8.455 -2.5,-8.055 -1.05,-8.055 ; -1.05,-5.915 -2.5,-5.915 -2.5,-5.515 -1.05,-5.515 ; -1.05,-3.375 -2.5,-3.375 -2.5,-2.975 -1.05,-2.975 ; -1.05,-0.835 -2.5,-0.835 -2.5,-0.435 -1.05,-0.435 ; -1.05,1.705 -2.5,1.705 -2.5,2.105 -1.05,2.105 ; -1.05,4.245 -2.5,4.245 -2.5,4.645 -1.05,4.645 ; -1.05,6.785 -2.5,6.785 -2.5,7.185 -1.05,7.185 ; -1.05,9.325 -2.5,9.325 -2.5,9.725 -1.05,9.725 ; 1.05,-9.725 2.5,-9.725 2.5,-9.325 1.05,-9.325 ; 1.05,-7.185 2.5,-7.185 2.5,-6.785 1.05,-6.785 ; 1.05,-4.645 2.5,-4.645 2.5,-4.245 1.05,-4.245 ; 1.05,-2.105 2.5,-2.105 2.5,-1.705 1.05,-1.705 ; 1.05,0.435 2.5,0.435 2.5,0.835 1.05,0.835 ; 1.05,2.975 2.5,2.975 2.5,3.375 1.05,3.375 ; 1.05,5.515 2.5,5.515 2.5,5.915 1.05,5.915 ; 1.05,8.055 2.5,8.055 2.5,8.455 1.05,8.455 ; -1.05,9.725 -1.05,-10.16 1.05,-10.16 1.05,10.16 -0.615,10.16 -1.05,9.725
  text "'.Designator'" at 0.84,-4.047 h1
Top Courtyard:
  lines w0.254: -3.5,-10.67 3.5,-10.67 3.5,10.67 -3.5,10.67 -3.5,-10.67
Top Designator:
  text ".Designator" at -7.618,-0.508 h1.52

## PinHeader_1x16_P1.27mm_Vertical_SMD_Pin1Right [mm]
pads (16):
  rect 3x0.65 smd: 1(1.5,9.525) 2(-1.5,8.255) 3(1.5,6.985) 4(-1.5,5.715) 5(1.5,4.445) 6(-1.5,3.175) 7(1.5,1.905) 8(-1.5,0.635) 9(1.5,-0.635) 10(-1.5,-1.905) 11(1.5,-3.175) 12(-1.5,-4.445) 13(1.5,-5.715) 14(-1.5,-6.985) 15(1.5,-8.255) 16(-1.5,-9.525)
F.SilkS:
  lines w0.254: -1.16,-10.16 -1.16,-10.27 1.16,-10.27 1.16,-8.89 ; -1.16,-8.89 -1.16,-7.62 ; -1.16,-6.35 -1.16,-5.08 ; -1.16,-3.81 -1.16,-2.54 ; -1.16,-1.27 -1.16,0 ; -1.16,1.27 -1.16,2.54 ; -1.16,3.81 -1.16,5.08 ; -1.16,6.35 -1.16,7.62 ; -1.16,10.27 1.16,10.27 1.16,10.16 2.94,10.16 ; 1.16,-7.62 1.16,-6.35 ; 1.16,-5.08 1.16,-3.81 ; 1.16,-2.54 1.16,-1.27 ; 1.16,0 1.16,1.27 ; 1.16,2.54 1.16,3.81 ; 1.16,5.08 1.16,6.35 ; 1.16,7.62 1.16,8.89 ; -1.16,8.89 -1.16,10.16 -1.16,8.89
Top Assembly:
  lines w0.254: -1.05,-9.725 -2.5,-9.725 -2.5,-9.325 -1.05,-9.325 ; -1.05,-7.185 -2.5,-7.185 -2.5,-6.785 -1.05,-6.785 ; -1.05,-4.645 -2.5,-4.645 -2.5,-4.245 -1.05,-4.245 ; -1.05,-2.105 -2.5,-2.105 -2.5,-1.705 -1.05,-1.705 ; -1.05,0.435 -2.5,0.435 -2.5,0.835 -1.05,0.835 ; -1.05,2.975 -2.5,2.975 -2.5,3.375 -1.05,3.375 ; -1.05,5.515 -2.5,5.515 -2.5,5.915 -1.05,5.915 ; -1.05,8.055 -2.5,8.055 -2.5,8.455 -1.05,8.455 ; 1.05,-8.455 2.5,-8.455 2.5,-8.055 1.05,-8.055 ; 1.05,-5.915 2.5,-5.915 2.5,-5.515 1.05,-5.515 ; 1.05,-3.375 2.5,-3.375 2.5,-2.975 1.05,-2.975 ; 1.05,-0.835 2.5,-0.835 2.5,-0.435 1.05,-0.435 ; 1.05,1.705 2.5,1.705 2.5,2.105 1.05,2.105 ; 1.05,4.245 2.5,4.245 2.5,4.645 1.05,4.645 ; 1.05,6.785 2.5,6.785 2.5,7.185 1.05,7.185 ; 1.05,9.325 2.5,9.325 2.5,9.725 1.05,9.725 ; 1.05,9.725 1.05,-10.16 -1.05,-10.16 -1.05,10.16 0.615,10.16 1.05,9.725
  text "'.Designator'" at 0.84,-4.047 h1
Top Courtyard:
  lines w0.254: -3.5,-10.67 3.5,-10.67 3.5,10.67 -3.5,10.67 -3.5,-10.67
Top Designator:
  text ".Designator" at -7.618,-0.508 h1.52

## PinHeader_1x17_P1.27mm_Horizontal [mm]
pads (17):
  rect 1x1 hole 0.65: 1(0,0)
  round 1 hole 0.65: 2(0,-1.27) 3(0,-2.54) 4(0,-3.81) 5(0,-5.08) 6(0,-6.35) 7(0,-7.62) 8(0,-8.89) 9(0,-10.16) 10(0,-11.43) 11(0,-12.7) 12(0,-13.97) 13(0,-15.24) 14(0,-16.51) 15(0,-17.78) 16(0,-19.05) 17(0,-20.32)
F.SilkS:
  lines w0.254: -0.81,0 -0.81,0.81 0,0.81 ; 0.39,-21.065 1.61,-21.065 1.61,0.745 0.39,0.745 ; 0.503,-19.685 1.61,-19.685 ; 0.503,-18.415 1.61,-18.415 ; 0.503,-17.145 1.61,-17.145 ; 0.503,-15.875 1.61,-15.875 ; 0.503,-14.605 1.61,-14.605 ; 0.503,-13.335 1.61,-13.335 ; 0.503,-12.065 1.61,-12.065 ; 0.503,-10.795 1.61,-10.795 ; 0.503,-9.525 1.61,-9.525 ; 0.503,-8.255 1.61,-8.255 ; 0.503,-6.985 1.61,-6.985 ; 0.503,-5.715 1.61,-5.715 ; 0.503,-4.445 1.61,-4.445 ; 0.503,-3.175 1.61,-3.175 ; 0.503,-1.905 1.61,-1.905 ; 0.81,-0.635 1.61,-0.635 ; 1.61,-20.63 5.61,-20.63 5.61,-20.01 1.61,-20.01 ; 1.61,-19.36 5.61,-19.36 5.61,-18.74 1.61,-18.74 ; 1.61,-18.09 5.61,-18.09 5.61,-17.47 1.61,-17.47 ; 1.61,-16.82 5.61,-16.82 5.61,-16.2 1.61,-16.2 ; 1.61,-15.55 5.61,-15.55 5.61,-14.93 1.61,-14.93 ; 1.61,-14.28 5.61,-14.28 5.61,-13.66 1.61,-13.66 ; 1.61,-13.01 5.61,-13.01 5.61,-12.39 1.61,-12.39 ; 1.61,-11.74 5.61,-11.74 5.61,-11.12 1.61,-11.12 ; 1.61,-10.47 5.61,-10.47 5.61,-9.85 1.61,-9.85 ; 1.61,-9.2 5.61,-9.2 5.61,-8.58 1.61,-8.58 ; 1.61,-7.93 5.61,-7.93 5.61,-7.31 1.61,-7.31 ; 1.61,-6.66 5.61,-6.66 5.61,-6.04 1.61,-6.04 ; 1.61,-5.39 5.61,-5.39 5.61,-4.77 1.61,-4.77 ; 1.61,-4.12 5.61,-4.12 5.61,-3.5 1.61,-3.5 ; 1.61,-2.85 5.61,-2.85 5.61,-2.23 1.61,-2.23 ; 1.61,-1.58 5.61,-1.58 5.61,-0.96 1.61,-0.96 ; 1.61,-0.31 5.61,-0.31 5.61,0.31 1.61,0.31 1.61,-0.31
Top Assembly:
  lines w0.254: 0.5,-20.52 -0.2,-20.52 -0.2,-20.12 0.5,-20.12 ; 0.5,-19.25 -0.2,-19.25 -0.2,-18.85 0.5,-18.85 ; 0.5,-17.98 -0.2,-17.98 -0.2,-17.58 0.5,-17.58 ; 0.5,-16.71 -0.2,-16.71 -0.2,-16.31 0.5,-16.31 ; 0.5,-15.44 -0.2,-15.44 -0.2,-15.04 0.5,-15.04 ; 0.5,-14.17 -0.2,-14.17 -0.2,-13.77 0.5,-13.77 ; 0.5,-12.9 -0.2,-12.9 -0.2,-12.5 0.5,-12.5 ; 0.5,-11.63 -0.2,-11.63 -0.2,-11.23 0.5,-11.23 ; 0.5,-10.36 -0.2,-10.36 -0.2,-9.96 0.5,-9.96 ; 0.5,-9.09 -0.2,-9.09 -0.2,-8.69 0.5,-8.69 ; 0.5,-7.82 -0.2,-7.82 -0.2,-7.42 0.5,-7.42 ; 0.5,-6.55 -0.2,-6.55 -0.2,-6.15 0.5,-6.15 ; 0.5,-5.28 -0.2,-5.28 -0.2,-4.88 0.5,-4.88 ; 0.5,-4.01 -0.2,-4.01 -0.2,-3.61 0.5,-3.61 ; 0.5,-2.74 -0.2,-2.74 -0.2,-2.34 0.5,-2.34 ; 0.5,-1.47 -0.2,-1.47 -0.2,-1.07 0.5,-1.07 ; 0.5,-0.2 -0.2,-0.2 -0.2,0.2 0.5,0.2 ; 1.5,-20.52 5.5,-20.52 5.5,-20.12 1.5,-20.12 ; 1.5,-19.25 5.5,-19.25 5.5,-18.85 1.5,-18.85 ; 1.5,-17.98 5.5,-17.98 5.5,-17.58 1.5,-17.58 ; 1.5,-16.71 5.5,-16.71 5.5,-16.31 1.5,-16.31 ; 1.5,-15.44 5.5,-15.44 5.5,-15.04 1.5,-15.04 ; 1.5,-14.17 5.5,-14.17 5.5,-13.77 1.5,-13.77 ; 1.5,-12.9 5.5,-12.9 5.5,-12.5 1.5,-12.5 ; 1.5,-11.63 5.5,-11.63 5.5,-11.23 1.5,-11.23 ; 1.5,-10.36 5.5,-10.36 5.5,-9.96 1.5,-9.96 ; 1.5,-9.09 5.5,-9.09 5.5,-8.69 1.5,-8.69 ; 1.5,-7.82 5.5,-7.82 5.5,-7.42 1.5,-7.42 ; 1.5,-6.55 5.5,-6.55 5.5,-6.15 1.5,-6.15 ; 1.5,-5.28 5.5,-5.28 5.5,-4.88 1.5,-4.88 ; 1.5,-4.01 5.5,-4.01 5.5,-3.61 1.5,-3.61 ; 1.5,-2.74 5.5,-2.74 5.5,-2.34 1.5,-2.34 ; 1.5,-1.47 5.5,-1.47 5.5,-1.07 1.5,-1.07 ; 1.5,-0.2 5.5,-0.2 5.5,0.2 1.5,0.2 ; 0.5,-20.955 1.5,-20.955 1.5,0.635 0.75,0.635 0.5,0.385 0.5,-20.955
  text "'.Designator'" at 1.504,-12.588 h0.6
Top Courtyard:
  lines w0.254: -1.14,-21.46 6,-21.46 6,1.14 -1.14,1.14 -1.14,-21.46
Top Designator:
  text ".Designator" at -5.188,-10.668 h1.52

## PinHeader_1x17_P1.27mm_Vertical [mm]
pads (17):
  rect 1x1 hole 0.65: 1(0,0)
  round 1 hole 0.65: 2(0,-1.27) 3(0,-2.54) 4(0,-3.81) 5(0,-5.08) 6(0,-6.35) 7(0,-7.62) 8(0,-8.89) 9(0,-10.16) 10(0,-11.43) 11(0,-12.7) 12(0,-13.97) 13(0,-15.24) 14(0,-16.51) 15(0,-17.78) 16(0,-19.05) 17(0,-20.32)
F.SilkS:
  lines w0.254: -1.16,0 -1.16,0.81 0,0.81 ; -0.667,-0.81 -1.16,-0.81 -1.16,-21.065 -0.318,-21.065 ; 0.318,-21.065 1.16,-21.065 1.16,-0.81 0.667,-0.81
Top Assembly:
  lines w0.254: -1.05,-20.955 1.05,-20.955 1.05,0.635 -0.525,0.635 -1.05,0.11 -1.05,-20.955
  text "'.Designator'" at 0.84,-14.207 h1
Top Courtyard:
  lines w0.254: -1.55,-21.46 1.55,-21.46 1.55,1.14 -1.55,1.14 -1.55,-21.46
Top Designator:
  text ".Designator" at -7.618,-10.668 h1.52